# Altium footprint library CRYSTAL.PcbLib: 1 footprints
Each footprint in its own frame and in the unit in brackets; x right, y up, seen from the top. Pads: shape width x height; smd on the part's side, far side on the other; paste and mask are expansions set on the pad; w line width, h text height; cw(c..) or ccw(c..) is an arc to the next point about the centre after c.
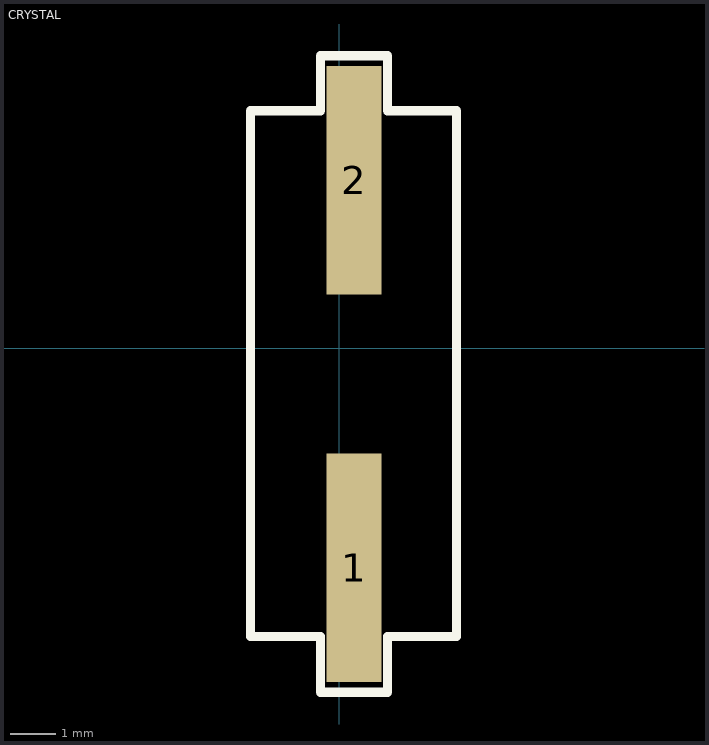
[diagram p0: the footprint, top view; thin cyan lines are the x and y axes]

## CRYSTAL [mm]
pads (2):
  rect 1.2x5 smd: 1(0.32,-4.81) 2(0.32,3.673)
Top Overlay:
  lines w0.2: -1.941,-6.309 -0.417,-6.309 -0.417,-7.528 1.056,-7.528 1.056,-6.309 2.559,-6.309 2.559,5.191 1.056,5.191 1.056,6.391 -0.417,6.391 -0.417,5.191 -1.941,5.191 -1.941,-6.309
3D body "smdcrystal.STEP": height 3.86, standoff 0.01, extent -2.055,-7.308 2.745,6.272